# Altium schematic symbol library SnapEDAsch.SchLib: 1 symbol
Pins are listed as number, name and electrical type; pins without a type are passive.

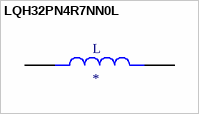
[diagram p0: symbol LQH32PN4R7NN0L]

## LQH32PN4R7NN0L
designator L
Inductor with Inductance: 4.7uH Tol. +/-30%, Package: 1210 _3225_; MF: Murata; MP: LQH32PN4R7NN0L; Value: *; Price: None; Package: Nonstandard Murata; SnapEDA_Link: https://www.snapeda.com/parts/LQH32PN4R7NN0L/Murata/view-part/4548733/?ref=snap; Availability: Unavailable
footprint IND_LQH32PN4R7NN0L
pins: 1, 2